# EAGLE library part HONEYWELL-HIH613X (library SteveMarple)
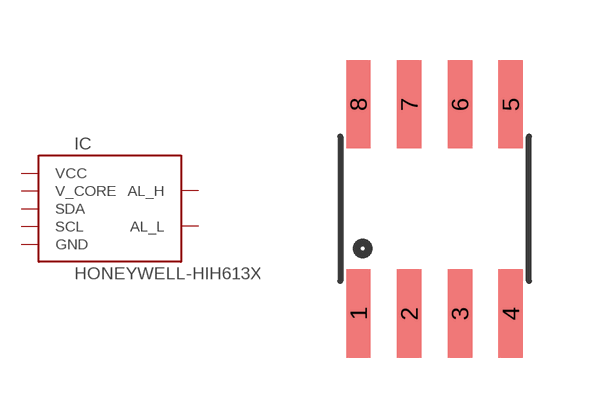
[diagram p32: symbol with the pads of SO08; footprint SO08]

Designator prefix IC

## HONEYWELL-HIH613XSOIC8  [SO08]
1  V_CORE  out
2  GND  pwr
3  SCL
4  SDA
5  AL_H
6  AL_L
8  VCC  pwr

## Footprint SO08 (pad centres in mm)
smd 0.61 x 2.21: 1 -1.905,-2.616; 2 -0.635,-2.616; 3 0.635,-2.616; 4 1.905,-2.616; 5 1.905,2.616; 6 0.635,2.616; 7 -0.635,2.616; 8 -1.905,2.616